# Altium footprint library 61301221021.PcbLib: 1 footprints
Each footprint in its own frame and in the unit in brackets; x right, y up, seen from the top. Pads: shape width x height; smd on the part's side, far side on the other; paste and mask are expansions set on the pad; w line width, h text height; cw(c..) or ccw(c..) is an arc to the next point about the centre after c.
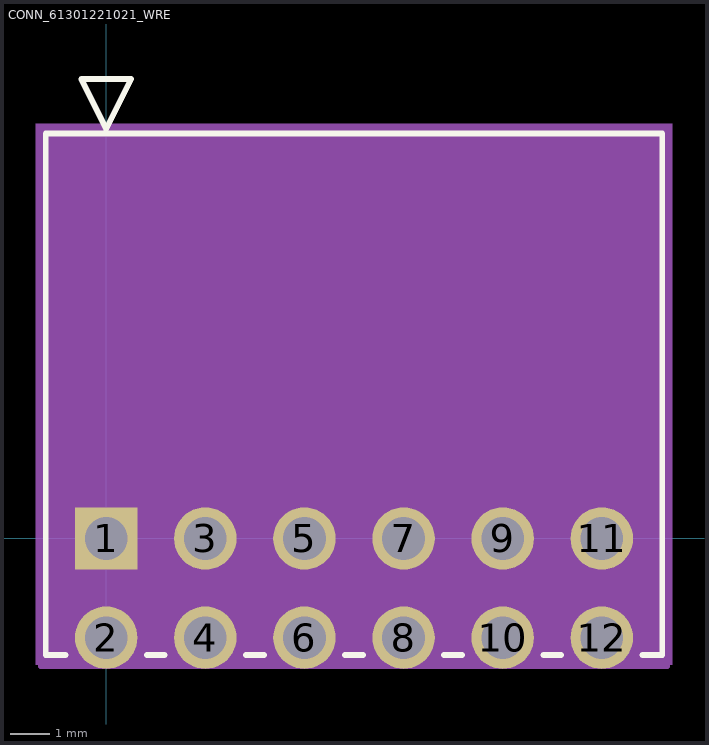
[diagram p0: the footprint, top view; thin cyan lines are the x and y axes]

## CONN_61301221021_WRE [mil]
pads (12):
  rect 63x63 hole 43 mask+0: 1(0,0)
  round 63 hole 43 mask+0: 2(0,-100) 3(100,0) 4(100,-100) 5(200,0) 6(200,-100) 7(300,0) 8(300,-100) 9(400,0) 10(400,-100) 11(500,0) 12(500,-100)
Top Overlay:
  lines w6: -40.98,-117.6 -61,-117.6 -61,408.4 561,408.4 561,-117.6 540.98,-117.6 ; 40.98,-117.6 59.02,-117.6 ; 140.98,-117.6 159.02,-117.6 ; 240.98,-117.6 259.02,-117.6 ; 340.98,-117.6 359.02,-117.6 ; 440.98,-117.6 459.02,-117.6 ; -25,463.4 0,413.4 25,463.4 -25,463.4
Mechanical 5:
  region: -71,418.4 571,418.4 571,-127.6 -71,-127.6
Mechanical 13:
  lines w1: -56,-112.6 556,-112.6 556,403.4 -56,403.4 -56,-112.6 ; -25,463.4 0,413.4 25,463.4 -25,463.4
Mechanical 15:
  region: 566,413.4 -66,413.4 -66,-128.9 566,-128.9
  lines w6: -66,-128.9 -66,413.4 566,413.4 566,-128.9 -66,-128.9
3D body "CONN_61301221021_WRE.step": height 200, standoff -250, extent -50,-16.5 550,515.98